# Altium schematic symbol library UCLA-DRS4.SCHLIB: 141 symbols (part 1 of 2)
Pins are listed as number, name and electrical type; pins without a type are passive.

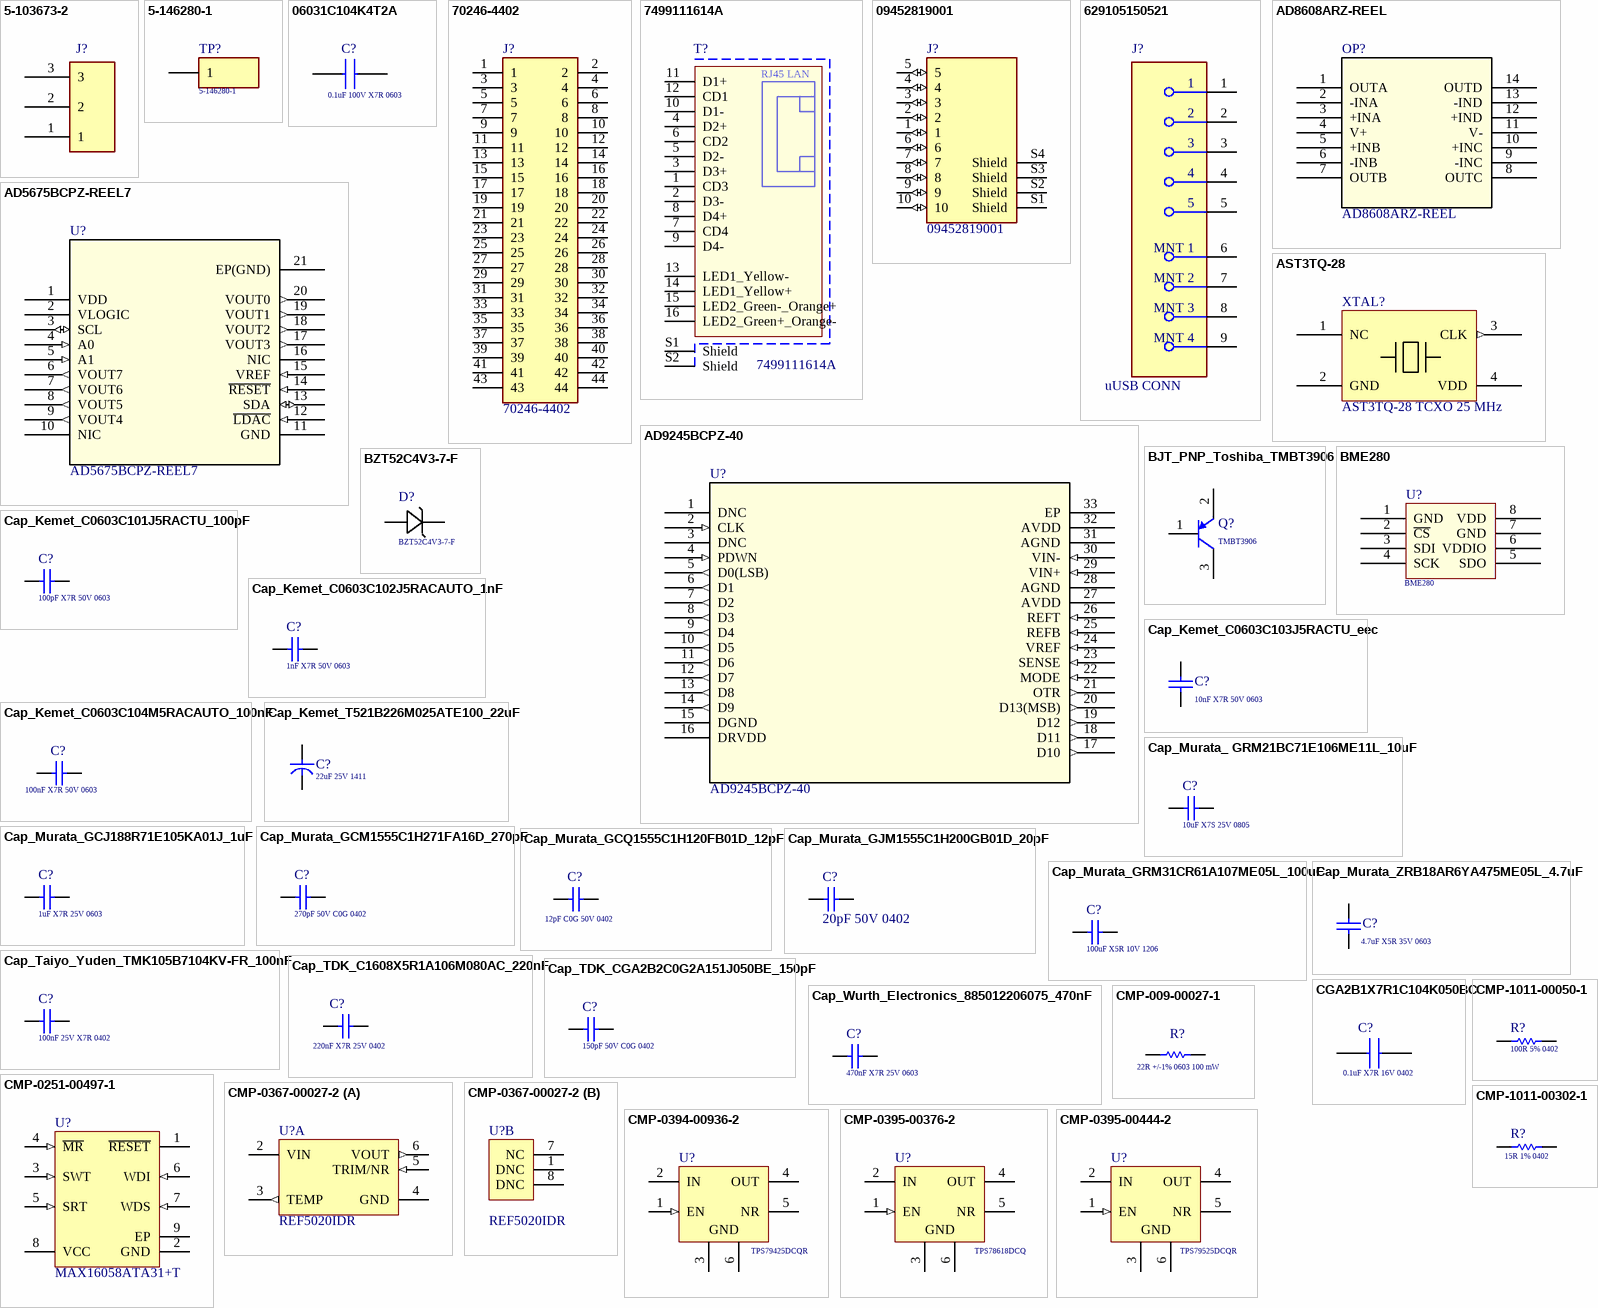
[diagram p0: symbols 5-103673-2 to CMP-1011-00302-1]

## 5-103673-2
designator J?  (value not drawn)
Headers & Wire Housings LATCHING HDR SHRD 3P W/ HOLD-DN 15AU CONT; Series: 5-147278-2; Supplier 1: Newark; Supplier Part Number 1: 78X5595
footprint 5-103673-2_TYC
pins: 1, 2, 3

## 5-146280-1
designator TP?
Connector; Manufacturer_Name: TE Connectivity; Datasheet Link: https://www.te.com/commerce/DocumentDelivery/DDEController?Action=showdoc&DocId=Customer+Drawing%7F146280%7FH2%7Fpdf%7FEnglish%7FENG_CD_146280_H2.pdf%7F5-146280-1; Height: 8.21mm; Manufacturer_Part_Number: 5-146280-1; Mouser Part Number: 571-51462801; Mouser Price/Stock: https://www.mouser.co.uk/ProductDetail/TE-Connectivity/5-146280-1/?qs=bwpFY26eRVcArW7BMMLddw%3D%3D; Arrow Part Number: 5-146280-1; Arrow Price/Stock: https://www.arrow.com/en/products/5-146280-1/te-connectivity
footprint HDRV1W67P0X254_1X1_213X234X821P
pins: 1

## 06031C104K4T2A
designator C?  Capacitance: 0.1uF 100V X7R 0603  (hidden comment: 06031C104K4T2A)
Multilayer Ceramic Capacitors MLCC - SMD/SMT 100V 0.1uF X7R 0603 10% Flex AEC-Q200; Manufacturer_Name: Kyocera AVX; Datasheet Link: https://componentsearchengine.com/Datasheets/1/06031A100FAT2A.pdf; Height: 0.9mm; Manufacturer_Part_Number: 06031C104K4T2A; Supplier 1: Newark; Supplier Part Number 1: 83AH8477
footprint CAPC1608X90N
pins: 1, 2

## 70246-4402
designator J?
Connector; Manufacturer_Name: Molex; Datasheet Link: https://www.mouser.com/datasheet/2/276/3/0702464402_PCB_HEADERS-2847292.pdf; Height: 9.47mm; Manufacturer_Part_Number: 70246-4402; Mouser Part Number: 538-70246-4402; Mouser Price/Stock: https://www.mouser.co.uk/ProductDetail/Molex/70246-4402/?qs=fJMuCzod2IK9%2F8AWteCV5A%3D%3D; Supplier 1: Mouser; Supplier Part Number 1: 538-70246-4402
footprint SHDR44W64P254_2X22_6350X889X947P
pins: 1, 2, 3, 4, 5, 6, 7, 8, 9, 10, 11, 12, 13, 14, 15, 16, 17, 18, 19, 20, 21, 22, 23, 24, 25, 26, 27, 28, 29, 30, 31, 32, 33, 34, 35, 36, 37, 38, 39, 40, 41, 42, 43, 44

## 7499111614A
designator T?
1 Port RJ45 Through Hole 10/100/1000 Base-T, AutoMDIX; Part Number: 7499111221A; Tab Position: Up; Port Number: 1x1; PoE: non-PoE; LED (Left-Right): green-green; USB: No; ComponentLink1Description: Manufacturer; ComponentLink1URL: http://www.we-online.de; ComponentLink2Description: Datasheet; ComponentLink2URL: http://katalog.we-online.de/pbs/datasheet/7499111221A.pdf; Published Date: Dec. 2017; Publisher: Wurth Elektronik; Data Rate: 10/100/1000 Base-T; Operating Temperature: 0 to +70 degC; Mounting Technology: THT; Supplier 1: Newark; Supplier Part Number 1: 99AH1363
footprint 7499111614A (LAN Transformer, body 33.02x16.87mm)
pins: 1 CD3, 2 D3-, 3 D3+, 4 D2+, 5 D2-, 6 CD2, 7 CD4, 8 D4+, 9 D4-, 10 D1-, 11 D1+, 12 CD1, 13 LED1_Yellow-, 14 LED1_Yellow+, 15 LED2_Green-_Orange+, 16 LED2_Green+_Orange-, S1 Shield, S2 Shield
text: RJ45 LAN

## 09452819001
designator J?
Connector; Manufacturer_Name: HARTING; Datasheet Link: https://b2b.harting.com/files/download/PRD/PDF_TS/09452819001_100805966DRW000C.pdf?siteName=Ebusiness+Site&autoLogoutEnabled=true&autoLogoutTime=1800&showPrivacyEmailAgreement=false&contextURL=https%3A%2F%2Fb2b.harting.com%2Febusiness%2Fen_us; Manufacturer_Part_Number: 09452819001; Mouser Part Number: 617-09452819001; Mouser Price/Stock: https://www.mouser.co.uk/ProductDetail/HARTING/09452819001?qs=T3oQrply3y%2Fl7UBgasft0g%3D%3D; Arrow Part Number: 09452819001; Arrow Price/Stock: https://www.arrow.com/en/products/09452819001/harting
footprint 09452812561
pins: 1 (io), 2 (io), 3 (io), 4 (io), 5 (io), 6 (io), 7 (io), 8 (io), 9 (io), 10 (io), S1 Shield, S2 Shield, S3 Shield, S4 Shield

## 629105150521
designator J?, comment uUSB CONN
USB Connectors WR-COM USB Micro SMT Type B Horiztl; Manufacturer 1: Wurth; Manufacturer Part Number 1: 629105150521
footprint Wurth_Electronics_629105150521_MFG
pins: 1, 2, 3, 4, 5, 6 MNT 1, 7 MNT 2, 8 MNT 3, 9 MNT 4

## AD5675BCPZ-REEL7
designator U?, comment Series: AD5675BCPZ-REEL7  (hidden comment: AD5675)
Digital to Analog Converters - DAC 16-bit octal I2C nanoDAC; Vendor: Analog Devices Inc; Built_By: Analog Devices Inc.; Manufacturer_Part_Number: AD5675BCPZ-REEL7; RefDes: RefDes; Type: DEV; Value: Value; Supplier Part Number 1: 584-AD5675BCPZ-REEL7; Supplier 1: Mouser
footprint CP_20_8
pins: 1 VDD (power), 2 VLOGIC (power), 3 SCL (io), 4 A0 (in), 5 A1 (in), 6 VOUT7 (out), 7 VOUT6 (out), 8 VOUT5 (out), 9 VOUT4 (out), 10 NIC, 11 GND, 12 ~{LDAC} (in), 13 SDA (io), 14 ~{RESET} (in), 15 VREF (in), 16 NIC, 17 VOUT3 (out), 18 VOUT2 (out), 19 VOUT1 (out), 20 VOUT0 (out), 21 EP(GND)

## AD8608ARZ-REEL
designator OP?
IC OPAMP GP 4 CIRCUIT 14SOIC; Built_By: EMA_UL_Team; Vendor: Analog Devices Inc; SourceLibrary: Analog_2012-01-01_6; Manufacturer_Part_Number: AD8608ARZ-REEL; Copyright: Copyright (C) 2018 Accelerated Designs. All rights reserved; RefDes: RefDes; Type: DEV
footprint R_14_ADI-M
pins: 1 OUTA, 2 -INA, 3 +INA, 4 V+ (power), 5 +INB, 6 -INB, 7 OUTB, 8 OUTC, 9 -INC, 10 +INC, 11 V- (power), 12 +IND, 13 -IND, 14 OUTD

## AD9245BCPZ-40
designator U?, comment Series: AD9245BCPZ-40  (hidden comment: AD9245)
Analog to Digital Converters - ADC 14-Bit 40 MSPS 3V; Vendor: Analog Devices Inc; Built_By: EMA_UL_Team; C: Copyright (C) 2015 Accelerated Designs. All rights reserved; RefDes: RefDes; Type: DEV; Supplier 1: Mouser; Supplier Part Number 1: 584-AD9245BCPZ-40; Part: AD9245BCPZ-40
footprint CP_32_2
pins: 1 DNC, 2 CLK (in), 3 DNC, 4 PDWN (in), 5 D0(LSB) (out), 6 D1 (out), 7 D2 (out), 8 D3 (out), 9 D4 (out), 10 D5 (out), 11 D6 (out), 12 D7 (out), 13 D8 (out), 14 D9 (out), 15 DGND, 16 DRVDD (power), 17 D10 (out), 18 D11 (out), 19 D12 (out), 20 D13(MSB) (out), 21 OTR (out), 22 MODE (in), 23 SENSE (in), 24 VREF (in), 25 REFB (in), 26 REFT (in), 27 AVDD (power), 28 AGND, 29 VIN+ (in), 30 VIN- (in), 31 AGND, 32 AVDD (power), 33 EP

## AST3TQ-28
designator XTAL?, comment AST3TQ-28 TCXO 25 MHz
TCXO Oscillators 25MHz 3.3Volt LVCMOS 0.280 ppm -40C 85C; Manufacturer 1: Abracon LLC; Manufacturer Part Number 1: AST3TQ-T-25.000MHZ-28; Supplier 1: Digikey; Supplier Part Number 1: 535-12700-ND
footprint XTAL_ASDM1-25.000MHZ-LC-T
pins: 1 NC, 2 GND, 3 CLK (out), 4 VDD (power)

## BJT_PNP_Toshiba_TMBT3906
designator Q?  Series: TMBT3906  (hidden comment: BJT_PNP_Toshiba_TMBT3906)
Bipolar Transistors - BJT Transistor for Low Freq. Amplification; Manufacturer Part Number 1: TMBT3906,LM; Supplier Part Number 1: 757-TMBT3906LM; Supplier 1: Mouser; Manufacturer: Toshiba
footprint BJT_PNP_Toshiba_TMBT3906
pins: 1 B, 2 E, 3 C

## BME280
designator U?
Board Mount Humidity Sensors; Supplier 1: Mouser; Supplier Part Number 1: 262-BME280
footprint BME280
pins: 1 GND, 2 ~{CS}, 3 SDI, 4 SCK, 5 SDO, 6 VDDIO, 7 GND, 8 VDD

## BZT52C4V3-7-F
designator D?
Zener Diodes 500mW 4.3V Zener AEC-Q101 Qualified; Vendor: Diodes Inc; Built_By: EMA_UL_Team; Type: DEV; C: Copyright (C) 2015 Accelerated Designs. All rights reserved; Manufacturer_Part_Number: BZT52C4V3-7-F; RefDes: RefDes; Supplier 1: Mouser; Supplier Part Number 1: 621-BZT52C4V3-F; Series: BZT52C4V3-7-F
footprint SOD123
pins: 1, 2

## Cap_Kemet_C0603C101J5RACTU_100pF
designator C?  Capacitance: 100pF X7R 50V 0603  (hidden comment: Cap_Kemet_C0603C101J5RACTU_100pF)
CAP CER 100pF 50V X7R 0603; Supplier 1: Mouser; Supplier Part Number 1: 80-C0603C101J5R
footprint Cap_Kemet_C0603C101J5RACTU_100pF
pins: 1, 2

## Cap_Kemet_C0603C102J5RACAUTO_1nF
designator C?  Capacitance: 1nF X7R 50V 0603  (hidden comment: Cap_Kemet_C0603C102J5RACAUTO_1nF)
CAP CER 1nF 50V X7R 0603; Supplier 1: Mouser; Supplier Part Number 1: 80-C0603C102J5RAUTO
footprint Cap_Kemet_C0603C102J5RACAUTO_1nF
pins: 1, 2

## Cap_Kemet_C0603C103J5RACTU_eec
designator C?  Capacitance: 10nF X7R 50V 0603  (hidden comment: Cap_Kemet_C0603C103J5RACTU_eec)
CAP CER 10nF 50V X7R 0603; Manufacturer: Kemet; Mfg Package Ident: C0603; Part Number: C0603C103J5RACTU; helpURL: https://upverter.com/upn/revision/8a8d0c297e33ac74/; ComponentLink2Description: Datasheet; Temperature: -55°C to +125°C; Package: C0603; Supplier 2: Mouser; Price: 0.0184203126773; Supplier 1: Digi-Key; ComponentLink1URL: https://upverter.com/upn/revision/8a8d0c297e33ac74/; Supplier Part Number 2: 80-C0603C103J5R; Supplier Part Number 1: 399-1092-1-ND; Value: 10nF; ComponentLink1Description: Upverter; ComponentLink2URL: https://content.kemet.com/datasheets/KEM_C1002_X7R_SMD.pdf; RoHS: TRUE; Mouser Part Number: 80-C0603C103J5R; Temperature Range High: +125°C; Digikey Description: CAP CER 10000PF 50V X7R 0603; Digikey Part Number: 399-1092-1-ND; Lead Free: yes; Temperature Range Low: -55°C; Voltage: 50V
footprint Kemet_C0603_0
pins: 1, 2

## Cap_Kemet_C0603C104M5RACAUTO_100nF
designator C?  Capacitance: 100nF X7R 50V 0603  (hidden comment: Cap_Kemet_C0603C104M5RACAUTO_100nF)
CAP CER 100nF 50V X7R 0603; Supplier 1: Mouser; Supplier Part Number 1: 80-C0603C104M5RAUTO
footprint Cap_Kemet_C0603C104M5RACAUTO_100nF
pins: 1, 2

## Cap_Kemet_T521B226M025ATE100_22uF
designator C?  Capacitance: 22uF 25V 1411  (hidden comment: Cap_Kemet_T521B226M025ATE100_22uF)
Tantalum Capacitors - Polymer SMD 25V 22uF 1311 20% ESR=100mOhms; Supplier 1: Mouser; Supplier Part Number 1: 80-T521B226M25ATE100
footprint Cap_Kemet_T521B226M025ATE100_22uF
pins: 1, 2

## Cap_Murata_ GRM21BC71E106ME11L_10uF
designator C?  Capacitance: 10uF X7S 25V 0805  (hidden comment: Cap_Murata_ GRM21BC71E106ME11L_10uF)
CAP CER 10uF 25V X7R 0805; Supplier 1: Mouser; Supplier Part Number 1: 81-GRM21BC71E106ME1L
footprint Cap_Murata_ GRM21BC71E106ME11L_10uF
pins: 1, 2

## Cap_Murata_GCJ188R71E105KA01J_1uF
designator C?  Capacitance: 1uF X7R 25V 0603  (hidden comment: Cap_Murata_GCJ188R71E105KA01J_1uF)
CAP CER 1uF 25V X7R 0603; Supplier 1: Mouser; Supplier Part Number 1: 81-GCJ188R71E105KA1J
footprint Cap_Murata_GCJ188R71E105KA01J_1uF
pins: 1, 2

## Cap_Murata_GCM1555C1H271FA16D_270pF
designator C?  Capacitance: 270pF 50V C0G 0402  (hidden comment: Cap_Murata_GCM1555C1H271FA16D_270pF)
CAP 270pF 50V C0G ±1% 0402; Supplier 1: Mouser; Supplier Part Number 1: 81-GCM1555C1H271FA6D
footprint Cap_Murata_GCM1555C1H271FA16D_270pF
pins: 1, 2

## Cap_Murata_GCQ1555C1H120FB01D_12pF
designator C?  Capacitance: 12pF C0G 50V 0402  (hidden comment: Cap_Murata_GCQ1555C1H120FB01D_12pF)
MLCC - SMD/SMT 0402 50VDC 12pF 1% AEC-Q200; Manufacturer 1: Murata; Supplier 1: Mouser; Supplier Part Number 1: 81-GCQ1555C1H120FB1D; Manufacturer Part Number 1: GCQ1555C1H120FB01D
footprint Cap_Murata_GCQ1555C1H120FB01D_12pF
pins: 1, 2

## Cap_Murata_GJM1555C1H200GB01D_20pF
designator C?  Capacitance: 20pF 50V 0402  (hidden comment: Cap_Murata_GJM1555C1H200GB01D_20pF)
Multilayer Ceramic Capacitors MLCC - SMD/SMT 0402 20pF 50Volts C0G 2%; Supplier 1: Mouser; Supplier Part Number 1: 81-GJM1555C1H200GB01
footprint Cap_Murata_GJM1555C1H200GB01D_20pF
pins: 1, 2

## Cap_Murata_GRM31CR61A107ME05L_100uF
designator C?  Capacitance: 100uF X5R 10V 1206  (hidden comment: Cap_Murata_GRM31CR61A107ME05L_100uF)
CAP CER 100uF 25V X5R 1206; Supplier Part Number 1: 81-GRM31CR61A107ME5L; Supplier 1: Mouser
footprint Cap_Murata_GRM31CR61A107ME05L_100uF
pins: 1, 2

## Cap_Murata_ZRB18AR6YA475ME05L_4.7uF
designator C?  Capacitance: 4.7uF X5R 35V 0603  (hidden comment: Cap_Murata_ZRB18AR6YA475ME05L_4.7uF)
CAP CER 4.7uF 35V X5R 0603; Supplier 1: Mouser; Supplier Part Number 1: 81-ZRB18AR6YA475ME5L
footprint Cap_Murata_ZRB18AR6YA475ME05L_4.7uF
pins: 1, 2

## Cap_Taiyo_Yuden_TMK105B7104KV-FR_100nF
designator C?  Capacitance: 100nF 25V X7R 0402  (hidden comment: Cap_Taiyo_Yuden_TMK105B7104KV-FR_100nF)
CAP CER 100nF 25V X7R 0402; Supplier 1: Mouser; Supplier Part Number 1: 963-TMK105B7104KV-FR
footprint Cap_Taiyo_Yuden_TMK105B7104KV-FR_100nF
pins: 1, 2

## Cap_TDK_C1608X5R1A106M080AC_220nF
designator C?  Capacitance: 220nF X7R 25V 0402  (hidden comment: Cap_TDK_C1608X5R1A106M080AC_220nF)
CAP CER 220nF 50V X7R 0402; Supplier 1: Mouser; Supplier Part Number 1: 810-C1005X7R1E224KBE
footprint Cap_TDK_C1608X5R1A106M080AC_220nF
pins: 1, 2

## Cap_TDK_CGA2B2C0G2A151J050BE_150pF
designator C?  Capacitance: 150pF 50V C0G 0402  (hidden comment: Cap_TDK_CGA2B2C0G2A151J050BE_150pF)
CAP 150pF 50V C0G ±1% 0402 (1000 Metric) Thickness 1mm SMD; Supplier 1: Mouser; Supplier Part Number 1: 810-CGA2B2C0G2A151J0
footprint Cap_TDK_CGA2B2C0G2A151J050BE_150pF
pins: 1, 2

## Cap_Wurth_Electronics_885012206075_470nF
designator C?  Capacitance: 470nF X7R 25V 0603  (hidden comment: Cap_Wurth_Electronics_885012206075_470nF)
CAP CER 470nF 25V X7R 0603; Supplier 1: Mouser; Supplier Part Number 1: 710-885012206075
footprint Cap_Wurth_Electronics_885012206075_470nF
pins: 1, 2

## CGA2B1X7R1C104K050BC
designator C?  Parameter: 0.1uF X7R 16V 0402  (hidden comment: CGA2B1X7R1C104K050BC)
Capacitor; Manufacturer_Name: TDK; Datasheet Link: https://product.tdk.com/system/files/dam/doc/product/capacitor/ceramic/mlcc/catalog/mlcc_automotive_general_en.pdf; Height: 0.55mm; Manufacturer_Part_Number: CGA2B1X7R1C104K050BC; Mouser Part Number: 810-CGA2B1X7R1C104K; Mouser Price/Stock: https://www.mouser.co.uk/ProductDetail/TDK/CGA2B1X7R1C104K050BC?qs=NRhsANhppD8tgIeNjgC%2Fqg%3D%3D; Arrow Part Number: CGA2B1X7R1C104K050BC; Arrow Price/Stock: https://www.arrow.com/en/products/cga2b1x7r1c104k050bc/tdk?region=nac
footprint CAPC1005X55N
pins: 1, 2

## CMP-009-00027-1
designator R?, comment Parameter: 22R +/-1% 0603 100 mW  (hidden comment: CRCW060322R0FKEA)
Chip Resistor, 22 Ohm, +/- 1%, 100 mW, -55 to 155 degC, 0603 (1608 Metric); Resistance: 22; Power: 100mW; Voltage Rating: 75V; Min Operating Temperature: -55°C; RoHS Compliant: True; Max Operating Temperature: 155°C; Tolerance: 1%; Case/Package: 0603; Mounting Technology: SM; Supplier 1: Newark; Supplier Part Number 1: 24W2788
footprint RES_CRCW_0603
pins: 1, 2

## CMP-0251-00497-1
designator U?, comment MAX16058ATA31+T
125nA Supervisory Circuit with Capacitor-Adjustable Reset and Watchdog Timeouts, open-drain reset, Watch-dog timer, 8-Pin TDFN, -40°C to +125°C, Pb-Free, Tape and Reel; Manufacturer: Maxim; ComponentLink2Description: Datasheet; ComponentLink2URL: http://datasheets.maxim-ic.com/en/ds/MAX16056-MAX16059.pdf; PackageDescription: 8-Pin Plastic Very Very Thin Dual Flatpack No Leads, Exposed Pad, 3 x 3 x 0.8 mm Body, TDFN-EP, Pb-Free; DatasheetVersion: Rev 1, Jun-2010; ComponentLink3URL: http://pdfserv.maxim-ic.com/package_dwgs/21-0137.PDF; PackageVersion: revJ, 2009; PackageReference: T833+2; ComponentLink1URL: http://www.maxim-ic.com; ComponentLink1Description: Manufacturer URL; ComponentLink3Description: Package Specification; Code_JEDEC: MO-229-WEEC; Manufacturer Part Number: MAX16058ATA31+T
footprint T833+2 (SON, 8-Leads, Body 3x3 mm, Pitch 0.65mm, Thermal Pad 2.35x1.58mm, Maxim Recommended)
pins: 1 ~{RESET} (oc), 2 GND (power), 3 SWT (in), 4 ~{MR} (in), 5 SRT (in), 6 WDI (in), 7 WDS (in), 8 VCC (power), 9 EP (power)

## CMP-0367-00027-2
designator U?, comment REF5020IDR
Low Noise, Very Low Drift, Precision Voltage Reference, -40 to 125 degC, 8-pin SOIC (D), Green (RoHS & no Sb/Br); Manufacturer: Texas Instruments; Iq(Max)(uA): 1000; VI(Min)(V): 2.7; Temp Coeff(Max)(ppm/ degree C): 3; VI(Max)(V): 18; Rating: Catalog; Initial Accuracy @ 25/deg C(%): 0.05; VO(V): 2.048; Iout/Iz(Max)(mA): 10; SubFamily: Series Voltage Reference; DatasheetVersion: SBOS410E; ComponentLink3URL: http://www.ti.com/litv/pdf/msoi002j; ComponentLink1URL: http://www.ti.com/; PackageDescription: 8-Pin Plastic Small Outline, Body 4.9 x 3.9 mm, Pitch 1.27 mm; ComponentLink2URL: http://www.ti.com/general/docs/lit/getliterature.tsp?genericPartNumber=REF5020&fileType=pdf; ComponentLink3Description: Package Specification; PackageReference: D0008A; Mounting Technology: Surface Mount; ComponentLink2Description: Datasheet; PartNumber: REF5020IDR; Code_JEDEC: MS-012; Eco-Plan: Green (RoHS & no Sb/Br); ComponentLink1Description: Manufacturer URL; PackageVersion: 4040047-3/M; Manufacturer Part Number: REF5020IDR
footprint D0008A_N (SOIC, 8-Leads, Body 5x4mm, Pitch 1.27mm, IPC Medium Density)
footprint D0008A_L (SOIC, 8-Leads, Body 5x4mm, Pitch 1.27mm, IPC High Density)
footprint D0008A_M (SOIC, 8-Leads, Body 5x4mm, Pitch 1.27mm, IPC Low Density)
part A pins: 2 VIN (power), 3 TEMP (out), 4 GND (power), 5 TRIM/NR (in), 6 VOUT (out)
part B pins: 1 DNC, 7 NC, 8 DNC

## CMP-0394-00936-2
designator U?, comment TPS79425DCQR
Single Output High PSRR LDO, 250 mA, Fixed 2.5 V Output, 2.7 to 5.5 V Input, 6-pin SOT-223 (DCQ), -40 to 85 degC, Green (RoHS & no Sb/Br); Manufacturer: Texas Instruments; SubFamily: Single Channel LDO; Iout(Max)(A): 0.25; Vin(Max)(V): 5.5; Vin(Min)(V): 2.7; Fixed Output Options(V): 2.5; Vdo(Typ)(mV): 155; Iq(Typ)(mA): 0.26; Accuracy(%): 3; ComponentLink3Description: Package Specification; Mounting Technology: Surface Mount; ComponentLink1URL: http://www.ti.com/; PackageVersion: 4202109/D; ComponentLink2URL: http://www.ti.com/general/docs/lit/getliterature.tsp?genericPartNumber=TPS79425&fileType=pdf; DatasheetVersion: SLVS349E; Eco-Plan: Green (RoHS & no Sb/Br); PackageReference: DCQ0006A; PackageDescription: 6-Pin Plastic Small Outline, Body 3.5 x 6.5 mm, Pitch 1.27 mm; Vout Adj(Min)(V): 2.5; ComponentLink1Description: Manufacturer URL; Vout Adj(Max)(V): 2.5; ComponentLink3URL: http://www.ti.com/litv/pdf/mpds098c; ComponentLink2Description: Datasheet; PartNumber: TPS79425DCQR; Manufacturer Part Number: TPS79425DCQR
footprint DCQ0006A_L (SOT223, 6-Leads, Body 6.55x3.55mm, Pitch 1.27mm, IPC High Density)
footprint DCQ0006A_M (SOT223, 6-Leads, Body 6.55x3.55mm, Pitch 1.27mm, IPC Low Density)
footprint DCQ0006A_N (SOT223, 6-Leads, Body 6.55x3.55mm, Pitch 1.27mm, IPC Medium Density)
pins: 1 EN (in) "The EN terminal is an input that enables or shuts down the device. When EN is a logic high, the device is enabled. When the device is a logic low, the device is in shutdown mode.", 2 IN (power) "Unregulated input to the device.", 3 GND (power) "Regulator ground", 4 OUT (power) "Regulator output", 5 NR "Connecting an external capacitor to this pin bypasses noise generated by the internal bandgap, which improves power-supply rejection and reduces output noise.", 6 GND (power) "Regulator ground"

## CMP-0395-00376-2
designator U?, comment TPS78618DCQ
Single Output High PSRR LDO, 1.5 A, Fixed 1.8 V Output, 2.7 to 5.5 V Input, 6-pin SOT-223 (DCQ), -40 to 125 degC, Green (RoHS & no Sb/Br); Manufacturer: Texas Instruments; Accuracy(%): 3; Fixed Output Options(V): 1.8; Vin(Min)(V): 2.7; SubFamily: Single Channel LDO; Vdo(Typ)(mV): 390; Vin(Max)(V): 5.5; Iout(Max)(A): 1.5; Iq(Typ)(mA): 0.2; Vout Adj(Min)(V): 1.8; ComponentLink3Description: Package Specification; PackageReference: DCQ0006A; ComponentLink3URL: http://www.ti.com/litv/pdf/mpds098c; ComponentLink1Description: Manufacturer URL; DatasheetVersion: SLVS389L; PackageDescription: 6-Pin Plastic Small Outline, Body 3.5 x 6.5 mm, Pitch 1.27 mm; Vout Adj(Max)(V): 1.8; ComponentLink1URL: http://www.ti.com/; Eco-Plan: Green (RoHS & no Sb/Br); Mounting Technology: Surface Mount; PartNumber: TPS78618DCQ; PackageVersion: 4202109/D; ComponentLink2URL: http://www.ti.com/general/docs/lit/getliterature.tsp?genericPartNumber=TPS78618&fileType=pdf; ComponentLink2Description: Datasheet; Manufacturer Part Number: TPS78618DCQ
footprint DCQ0006A_L (SOT223, 6-Leads, Body 6.55x3.55mm, Pitch 1.27mm, IPC High Density)
footprint DCQ0006A_M (SOT223, 6-Leads, Body 6.55x3.55mm, Pitch 1.27mm, IPC Low Density)
footprint DCQ0006A_N (SOT223, 6-Leads, Body 6.55x3.55mm, Pitch 1.27mm, IPC Medium Density)
pins: 1 EN (in) "The EN terminal is an input that enables or shuts down the device. When EN is a logic high, the device is enabled. When the device is a logic low, the device is in shutdown mode.", 2 IN (power) "Unregulated input to the device.", 3 GND (power) "Regulator ground", 4 OUT (power) "Regulator output", 5 NR "Connecting an external capacitor to this pin bypasses noise generated by the internal bandgap, which improves power-supply rejection and reduces output noise.", 6 GND (power) "Regulator ground"

## CMP-0395-00444-2
designator U?, comment TPS79525DCQR
Single Output High PSRR LDO, 500 mA, Fixed 2.5 V Output, 2.7 to 5.5 V Input, 6-pin SOT-223 (DCQ), -40 to 125 degC, Green (RoHS & no Sb/Br); Manufacturer: Texas Instruments; Iout(Max)(A): 0.5; Vout Adj(Min)(V): 2.5; Vin(Max)(V): 5.5; SubFamily: Single Channel LDO; Vdo(Typ)(mV): 110; Rating: Catalog; Accuracy(%): 2; Iq(Typ)(mA): 0.26; Vin(Min)(V): 2.7; ComponentLink3URL: http://www.ti.com/litv/pdf/mpds098c; ComponentLink1URL: http://www.ti.com/; Eco-Plan: Green (RoHS & no Sb/Br); PackageDescription: 6-Pin Plastic Small Outline, Body 3.5 x 6.5 mm, Pitch 1.27 mm; PartNumber: TPS79525DCQR; Fixed Output Options(V): 2.5; ComponentLink1Description: Manufacturer URL; PackageReference: DCQ0006A; ComponentLink2Description: Datasheet; Vout Adj(Max)(V): 2.5; ComponentLink3Description: Package Specification; ComponentLink2URL: http://www.ti.com/general/docs/lit/getliterature.tsp?genericPartNumber=TPS79525&fileType=pdf; Mounting Technology: Surface Mount; DatasheetVersion: SLVS350H; PackageVersion: 4202109/D; Supplier 1: Mouser; Supplier Part Number 1: 595-TPS79525DCQR
footprint DCQ0006A_L (SOT223, 6-Leads, Body 6.55x3.55mm, Pitch 1.27mm, IPC High Density)
footprint DCQ0006A_N (SOT223, 6-Leads, Body 6.55x3.55mm, Pitch 1.27mm, IPC Medium Density)
footprint DCQ0006A_M (SOT223, 6-Leads, Body 6.55x3.55mm, Pitch 1.27mm, IPC Low Density)
pins: 1 EN (in) "The EN terminal is an input that enables or shuts down the device. When EN is a logic high, the device is enabled. When the device is a logic low, the device is in shutdown mode.", 2 IN (power) "Unregulated input to the device.", 3 GND (power) "Regulator ground", 4 OUT (power) "Regulator output", 5 NR "Connecting an external capacitor to this pin bypasses noise generated by the internal bandgap, which improves power-supply rejection and reduces output noise.", 6 GND (power) "Regulator ground"

## CMP-1011-00050-1
designator R?, comment 100R 5% 0402
100R 0.063W 5% 0402 (1005 Metric)  SMD; Manufacturer: Vishay Dale; Manufacturer Part Number: CRCW0402100RJNTE; Manufacturer: Multicomp; Manufacturer Part Number: MCMR04X101JTL; Manufacturer: Panasonic; Manufacturer Part Number: ERJ-2GEJ101X; Manufacturer: Bourns; Manufacturer Part Number: CR0402-JW-101GLF; Manufacturer Part Number: CRCW0402100RJNTD; Manufacturer Part Number: CRCW0402100RJNED; Manufacturer Part Number: CRCW0402100RJNEE; Manufacturer: Yageo; Manufacturer Part Number: RC0402JR-07100RL; Case-EIA: 0402; Value: 100.00 Ohm; Case-Metric: 1005; Tolerance: 5 %; Technology: SMT; Power: 0.063 W
footprint RESC0402(1005)_L (Chip Resistor, Body 1.0x0.5mm, IPC High Density)
footprint RESC0402(1005)_N (Chip Resistor, Body 1.0x0.5mm, IPC Medium Density)
footprint RESC0402(1005)_M (Chip Resistor, Body 1.0x0.5mm, IPC Low Density)
pins: 1, 2
1 alternate drawing of the same symbol

## CMP-1011-00302-1
designator R?, comment 15R 1% 0402
15R 0.063W 1% 0402 (1005 Metric)  SMD; Manufacturer: Panasonic; Manufacturer Part Number: ERJ-2RKF15R0X; Manufacturer: Vishay Dale; Manufacturer Part Number: CRCW040215R0FKTD; Manufacturer: Vishay; Manufacturer Part Number: CRCW040215R0FKED; Manufacturer: Yageo; Manufacturer Part Number: RC0402FR-0715RL; Manufacturer: Bourns; Manufacturer Part Number: CR0402-FX-15R0GLF; Case-Metric: 1005; Case-EIA: 0402; Value: 15.00 Ohm; Tolerance: 1 %; Power: 0.063 W; Technology: SMT
footprint RESC0402(1005)_N (Chip Resistor, Body 1.0x0.5mm, IPC Medium Density)
footprint RESC0402(1005)_M (Chip Resistor, Body 1.0x0.5mm, IPC Low Density)
footprint RESC0402(1005)_L (Chip Resistor, Body 1.0x0.5mm, IPC High Density)
pins: 1, 2
1 alternate drawing of the same symbol

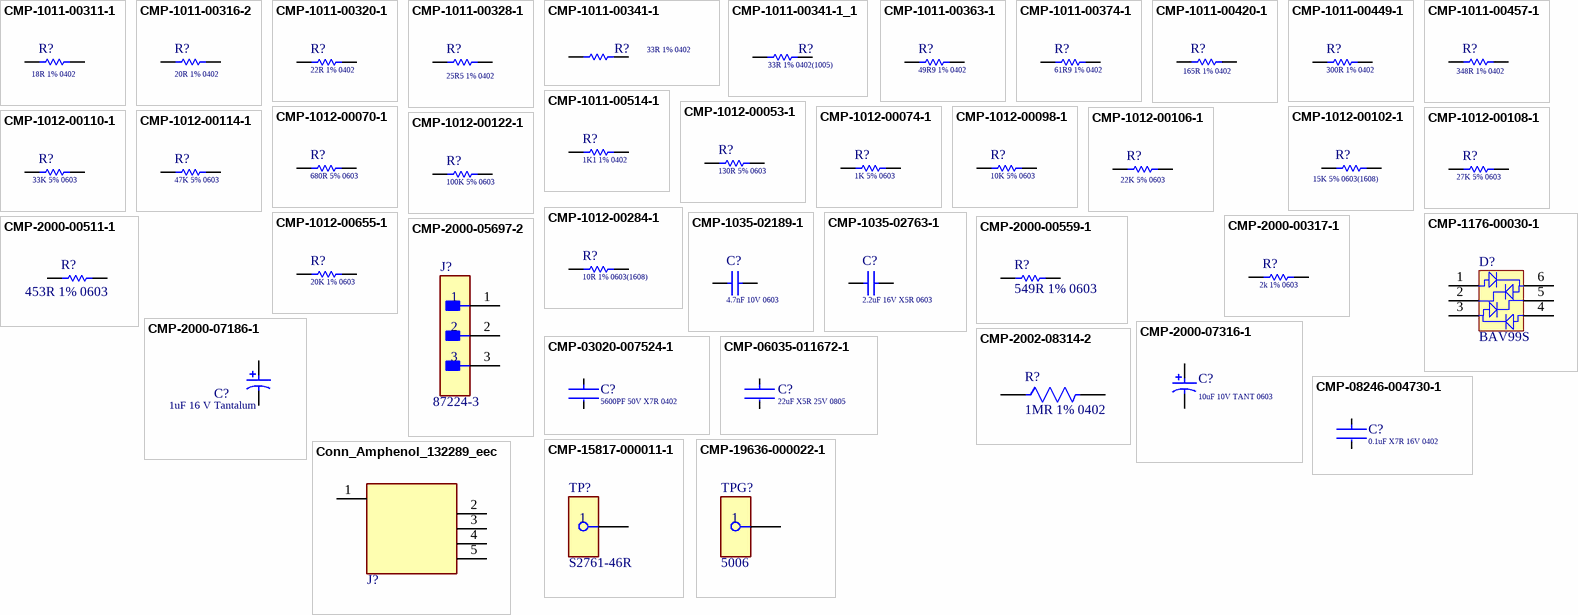
[diagram p1: symbols CMP-1011-00311-1 to Conn_Amphenol_132289_eec]

## CMP-1011-00311-1
designator R?, comment 18R 1% 0402
18R 0.063W 1% 0402 (1005 Metric)  SMD; Manufacturer: Vishay Dale; Manufacturer Part Number: CRCW040218R0FKTD; Manufacturer: Vishay; Manufacturer Part Number: CRCW040218R0FKED; Manufacturer: Panasonic; Manufacturer Part Number: ERJ-2RKF18R0X; Manufacturer: Bourns; Manufacturer Part Number: CR0402-FX-18R0GLF; Manufacturer: Yageo; Manufacturer Part Number: RC0402FR-0718RL; Case-EIA: 0402; Value: 18.00 Ohm; Case-Metric: 1005; Tolerance: 1 %; Power: 0.063 W; Technology: SMT
footprint RESC0402(1005)_N (Chip Resistor, Body 1.0x0.5mm, IPC Medium Density)
footprint RESC0402(1005)_L (Chip Resistor, Body 1.0x0.5mm, IPC High Density)
footprint RESC0402(1005)_M (Chip Resistor, Body 1.0x0.5mm, IPC Low Density)
pins: 1, 2
1 alternate drawing of the same symbol

## CMP-1011-00316-2
designator R?, comment Parameter: 20R 1% 0402  (hidden comment: CR0402-FX-20R0GLF)
Manufacturer: Bourns; Manufacturer: Vishay; Manufacturer Part Number: CRCW040220R0FKED; Manufacturer: Vishay Dale; Manufacturer Part Number: CRCW040220R0FKTD; Manufacturer: Panasonic; Manufacturer Part Number: ERJ-2RKF20R0X; Manufacturer: Yageo; Manufacturer Part Number: RC0402FR-0720RL; Part Number: CR0402-FX-20R0GLF; Manufacturer Part Number: CR0402-FX-20R0GLF
footprint RESC1005X40X25NL10T10 (Chip Resistor, 2-Leads, Body 1.00x0.50mm, IPC Medium Density)
footprint RESC1005X40X25ML10T10 (Chip Resistor, 2-Leads, Body 1.00x0.50mm, IPC Low Density)
footprint RESC1005X40X25LL10T10 (Chip Resistor, 2-Leads, Body 1.00x0.50mm, IPC High Density)
pins: 1, 2
1 alternate drawing of the same symbol

## CMP-1011-00320-1
designator R?, comment 22R 1% 0402
22R 0.063W 1% 0402 (1005 Metric)  SMD; Manufacturer: Vishay Dale; Manufacturer Part Number: CRCW040222R0FKTD; Manufacturer: Bourns; Manufacturer Part Number: CR0402-FX-22R0GLF; Manufacturer: Yageo; Manufacturer Part Number: RC0402FR-0722RL; Manufacturer: Panasonic; Manufacturer Part Number: ERJ-2RKF22R0X; Manufacturer: Vishay; Manufacturer Part Number: CRCW040222R0FKED; Case-EIA: 0402; Case-Metric: 1005; Value: 22.00 Ohm; Tolerance: 1 %; Technology: SMT; Power: 0.063 W
footprint RESC0402(1005)_N (Chip Resistor, Body 1.0x0.5mm, IPC Medium Density)
footprint RESC0402(1005)_M (Chip Resistor, Body 1.0x0.5mm, IPC Low Density)
footprint RESC0402(1005)_L (Chip Resistor, Body 1.0x0.5mm, IPC High Density)
pins: 1, 2
1 alternate drawing of the same symbol

## CMP-1011-00328-1
designator R?, comment 25R5 1% 0402
25R5 0.063W 1% 0402 (1005 Metric)  SMD; Manufacturer: Bourns; Manufacturer Part Number: CR0402-FX-25R5GLF; Manufacturer: Vishay Dale; Manufacturer Part Number: CRCW040225R5FKTD; Manufacturer: Panasonic; Manufacturer Part Number: ERJ-2RKF25R5X; Manufacturer: Yageo; Manufacturer Part Number: RC0402FR-0725R5L; Manufacturer: Vishay; Manufacturer Part Number: CRCW040225R5FKED; Case-EIA: 0402; Case-Metric: 1005; Value: 25.50 Ohm; Tolerance: 1 %; Power: 0.063 W; Technology: SMT
footprint RESC0402(1005)_M (Chip Resistor, Body 1.0x0.5mm, IPC Low Density)
footprint RESC0402(1005)_N (Chip Resistor, Body 1.0x0.5mm, IPC Medium Density)
footprint RESC0402(1005)_L (Chip Resistor, Body 1.0x0.5mm, IPC High Density)
pins: 1, 2
1 alternate drawing of the same symbol

## CMP-1011-00341-1
designator R?, comment Parameter: 33R 1% 0402  (hidden comment: CR0402-FX-33R0GLF)
Case-Metric: 1005; Tolerance: 1 %; Value: 33.00 Ohm; Power: 0.063 W; Case-EIA: 0402; Technology: SMT; Supplier 1: Newark; Supplier Part Number 1: 67AC7617
footprint RESC0402(1005)_N (Chip Resistor, Body 1.0x0.5mm, IPC Medium Density)
footprint RESC0402(1005)_M (Chip Resistor, Body 1.0x0.5mm, IPC Low Density)
footprint BO_CR0402
pins: 1, 2
1 alternate drawing of the same symbol

## CMP-1011-00341-1_1
designator R?, comment 33R 1% 0402(1005)
33R 0.063W 1% 0402 (1005 Metric)  SMD; Manufacturer: Vishay Dale; Manufacturer Part Number: CRCW040233R0FKTD; Manufacturer: Yageo; Manufacturer Part Number: RC0402FR-0733RL; Manufacturer: Panasonic; Manufacturer Part Number: ERJ-2RKF33R0X; Manufacturer: Vishay; Manufacturer Part Number: CRCW040233R0FKED; Manufacturer: Bourns; Manufacturer Part Number: CR0402-FX-33R0GLF; Manufacturer Part Number: CRCW040233R0FKEE; Case-Metric: 1005; Value: 33.00 Ohm; Case-EIA: 0402; Tolerance: 1 %; Power: 0.063 W; Technology: SMT
footprint RESC0402(1005)_L (Chip Resistor, Body 1.0x0.5mm, IPC High Density)
footprint RESC0402(1005)_N (Chip Resistor, Body 1.0x0.5mm, IPC Medium Density)
footprint RESC0402(1005)_M (Chip Resistor, Body 1.0x0.5mm, IPC Low Density)
pins: 1, 2
1 alternate drawing of the same symbol

## CMP-1011-00363-1
designator R?, comment 49R9 1% 0402
49R9 0.063W 1% 0402 (1005 Metric)  SMD; Manufacturer: Vishay; Manufacturer Part Number: CRCW040249R9FKED; Manufacturer: Vishay Dale; Manufacturer Part Number: CRCW040249R9FKEE; Manufacturer: Yageo; Manufacturer Part Number: RC0402FR-0749R9L; Manufacturer: Bourns; Manufacturer Part Number: CR0402-FX-49R9GLF; Manufacturer: Panasonic; Manufacturer Part Number: ERJ2RKF49R9X; Manufacturer Part Number: CRCW040249R9FKTE; Manufacturer Part Number: CRCW040249R9FKTD; Case-EIA: 0402; Case-Metric: 1005; Value: 49.90 Ohm; Power: 0.063 W; Technology: SMT; Tolerance: 1 %
footprint RESC0402(1005)_N (Chip Resistor, Body 1.0x0.5mm, IPC Medium Density)
footprint RESC0402(1005)_L (Chip Resistor, Body 1.0x0.5mm, IPC High Density)
footprint RESC0402(1005)_M (Chip Resistor, Body 1.0x0.5mm, IPC Low Density)
pins: 1, 2
1 alternate drawing of the same symbol

## CMP-1011-00374-1
designator R?, comment 61R9 1% 0402
61R9 0.063W 1% 0402 (1005 Metric)  SMD; Manufacturer: Panasonic; Manufacturer Part Number: ERJ-2RKF61R9X; Manufacturer: Vishay Dale; Manufacturer Part Number: CRCW040261R9FKTD; Manufacturer: Yageo; Manufacturer Part Number: RC0402FR-0761R9L; Manufacturer: Vishay; Manufacturer Part Number: CRCW040261R9FKED; Manufacturer: Bourns; Manufacturer Part Number: CR0402-FX-61R9GLF; Value: 61.90 Ohm; Case-EIA: 0402; Case-Metric: 1005; Tolerance: 1 %; Technology: SMT; Power: 0.063 W
footprint RESC0402(1005)_N (Chip Resistor, Body 1.0x0.5mm, IPC Medium Density)
footprint RESC0402(1005)_M (Chip Resistor, Body 1.0x0.5mm, IPC Low Density)
footprint RESC0402(1005)_L (Chip Resistor, Body 1.0x0.5mm, IPC High Density)
pins: 1, 2
1 alternate drawing of the same symbol

## CMP-1011-00420-1
designator R?, comment 165R 1% 0402
165R 0.063W 1% 0402 (1005 Metric)  SMD; Manufacturer: Panasonic; Manufacturer Part Number: ERJ-2RKF1650X; Manufacturer: Yageo; Manufacturer Part Number: RC0402FR-07165RL; Manufacturer: Vishay; Manufacturer Part Number: CRCW0402165RFKED; Manufacturer: Bourns; Manufacturer Part Number: CR0402-FX-1650GLF; Manufacturer: Vishay Dale; Manufacturer Part Number: CRCW0402165RFKTD; Manufacturer Part Number: CRCW0402165RFKEE; Case-EIA: 0402; Case-Metric: 1005; Value: 165.00 Ohm; Power: 0.063 W; Technology: SMT; Tolerance: 1 %
footprint RESC0402(1005)_M (Chip Resistor, Body 1.0x0.5mm, IPC Low Density)
footprint RESC0402(1005)_L (Chip Resistor, Body 1.0x0.5mm, IPC High Density)
footprint RESC0402(1005)_N (Chip Resistor, Body 1.0x0.5mm, IPC Medium Density)
pins: 1, 2
1 alternate drawing of the same symbol

## CMP-1011-00449-1
designator R?, comment 300R 1% 0402
300R 0.063W 1% 0402 (1005 Metric)  SMD; Manufacturer: Panasonic; Manufacturer Part Number: ERJ-2RKF3000X; Manufacturer: Vishay Dale; Manufacturer Part Number: CRCW0402300RFKTD; Manufacturer: Bourns; Manufacturer Part Number: CR0402-FX-3000GLF; Manufacturer: Vishay; Manufacturer Part Number: CRCW0402300RFKED; Manufacturer: Yageo; Manufacturer Part Number: RC0402FR-07300RL; Case-EIA: 0402; Value: 300.00 Ohm; Case-Metric: 1005; Tolerance: 1 %; Technology: SMT; Power: 0.063 W
footprint RESC0402(1005)_N (Chip Resistor, Body 1.0x0.5mm, IPC Medium Density)
footprint RESC0402(1005)_M (Chip Resistor, Body 1.0x0.5mm, IPC Low Density)
footprint RESC0402(1005)_L (Chip Resistor, Body 1.0x0.5mm, IPC High Density)
pins: 1, 2
1 alternate drawing of the same symbol

## CMP-1011-00457-1
designator R?, comment 348R 1% 0402
348R 0.063W 1% 0402 (1005 Metric)  SMD; Manufacturer: Vishay; Manufacturer Part Number: CRCW0402348RFKED; Manufacturer: Yageo; Manufacturer Part Number: RC0402FR-07348RL; Manufacturer: Bourns; Manufacturer Part Number: CR0402-FX-3480GLF; Manufacturer: Vishay Dale; Manufacturer Part Number: CRCW0402348RFKTD; Manufacturer: Panasonic; Manufacturer Part Number: ERJ-2RKF3480X; Case-EIA: 0402; Value: 348.00 Ohm; Case-Metric: 1005; Tolerance: 1 %; Technology: SMT; Power: 0.063 W
footprint RESC0402(1005)_L (Chip Resistor, Body 1.0x0.5mm, IPC High Density)
footprint RESC0402(1005)_N (Chip Resistor, Body 1.0x0.5mm, IPC Medium Density)
footprint RESC0402(1005)_M (Chip Resistor, Body 1.0x0.5mm, IPC Low Density)
pins: 1, 2
1 alternate drawing of the same symbol

## CMP-1011-00514-1
designator R?, comment 1K1 1% 0402
1K1 0.063W 1% 0402 (1005 Metric)  SMD; Manufacturer: Vishay Dale; Manufacturer Part Number: CRCW04021K10FKTD; Manufacturer: Yageo; Manufacturer Part Number: RC0402FR-071K1L; Manufacturer: Vishay; Manufacturer Part Number: CRCW04021K10FKED; Manufacturer: Panasonic; Manufacturer Part Number: ERJ-2RKF1101X; Manufacturer: Bourns; Manufacturer Part Number: CR0402-FX-1101GLF; Case-Metric: 1005; Case-EIA: 0402; Value: 1100.00 Ohm; Power: 0.063 W; Tolerance: 1 %; Technology: SMT
footprint RESC0402(1005)_L (Chip Resistor, Body 1.0x0.5mm, IPC High Density)
footprint RESC0402(1005)_N (Chip Resistor, Body 1.0x0.5mm, IPC Medium Density)
footprint RESC0402(1005)_M (Chip Resistor, Body 1.0x0.5mm, IPC Low Density)
pins: 1, 2
1 alternate drawing of the same symbol

## CMP-1012-00053-1
designator R?, comment 130R 5% 0603
130R 0.1W 5% 0603 (1608 Metric)  SMD; Manufacturer: Bourns; Manufacturer Part Number: CR0603-JW-131ELF; Manufacturer: Yageo; Manufacturer Part Number: RC0603JR-07130RL; Manufacturer: Vishay Dale; Manufacturer Part Number: CRCW0603130RJNTA; Manufacturer: Panasonic; Manufacturer Part Number: ERJ-3GEYJ131V; Manufacturer Part Number: CRCW0603130RJNEA; Manufacturer Part Number: CRCW0603130RJNEB; Case-Metric: 1608; Case-EIA: 0603; Value: 130.00 Ohm; Technology: SMT; Tolerance: 5 %; Power: 0.1 W
footprint RESC0603(1608)_L (Chip Resistor, Body 1.6x0.8mm, IPC High Density)
footprint RESC0603(1608)_M (Chip Resistor, Body 1.6x0.8mm, IPC Low Density)
footprint RESC0603(1608)_N (Chip Resistor, Body 1.6x0.8mm, IPC Medium Density)
pins: 1, 2
1 alternate drawing of the same symbol

## CMP-1012-00070-1
designator R?, comment 680R 5% 0603
680R 0.1W 5% 0603 (1608 Metric)  SMD; Manufacturer: Vishay Dale; Manufacturer Part Number: CRCW0603680RJNTA; Manufacturer Part Number: CRCW0603680RJNEB; Manufacturer: Bourns; Manufacturer Part Number: CR0603-JW-681ELF; Manufacturer: Panasonic; Manufacturer Part Number: ERJ-3GEYJ681V; Manufacturer: Yageo; Manufacturer Part Number: RC0603JR-07680RL; Manufacturer Part Number: CRCW0603680RJNEA; Case-EIA: 0603; Value: 680.00 Ohm; Case-Metric: 1608; Tolerance: 5 %; Technology: SMT; Power: 0.1 W
footprint RESC0603(1608)_M (Chip Resistor, Body 1.6x0.8mm, IPC Low Density)
footprint RESC0603(1608)_N (Chip Resistor, Body 1.6x0.8mm, IPC Medium Density)
footprint RESC0603(1608)_L (Chip Resistor, Body 1.6x0.8mm, IPC High Density)
pins: 1, 2
1 alternate drawing of the same symbol

## CMP-1012-00074-1
designator R?, comment 1K 5% 0603
1K 0.1W 5% 0603 (1608 Metric)  SMD; Manufacturer: Vishay Dale; Manufacturer Part Number: CRCW06031K00JNEB; Manufacturer Part Number: CRCW06031K00JNEA; Manufacturer Part Number: CRCW06031K00JNEC; Manufacturer: Panasonic; Manufacturer Part Number: ERJ-3GEYJ102V; Manufacturer Part Number: CRCW06031K00JNTC; Manufacturer: Yageo; Manufacturer Part Number: RC0603JR-071KL; Manufacturer: Bourns; Manufacturer Part Number: CR0603-JW-102ELF; Manufacturer Part Number: CRCW06031K00JNTB; Manufacturer Part Number: CRCW06031K00JNTA; Case-EIA: 0603; Case-Metric: 1608; Value: 1000.00 Ohm; Technology: SMT; Tolerance: 5 %; Power: 0.1 W
footprint RESC0603(1608)_L (Chip Resistor, Body 1.6x0.8mm, IPC High Density)
footprint RESC0603(1608)_M (Chip Resistor, Body 1.6x0.8mm, IPC Low Density)
footprint RESC0603(1608)_N (Chip Resistor, Body 1.6x0.8mm, IPC Medium Density)
pins: 1, 2
1 alternate drawing of the same symbol

## CMP-1012-00098-1
designator R?, comment 10K 5% 0603
10K 0.1W 5% 0603 (1608 Metric)  SMD; Manufacturer: Bourns; Manufacturer Part Number: CR0603-JW-103ELF; Manufacturer: Vishay Dale; Manufacturer Part Number: CRCW060310K0JNTB; Manufacturer Part Number: CRCW060310K0JNTC; Manufacturer Part Number: CRCW060310K0JNEC; Manufacturer Part Number: CRCW060310K0JNTA; Manufacturer: Yageo; Manufacturer Part Number: RC0603JR-0710KL; Manufacturer Part Number: CRCW060310K0JNEA; Manufacturer: Panasonic; Manufacturer Part Number: ERJ-3GEYJ103V; Manufacturer Part Number: CRCW060310K0JNEB; Case-EIA: 0603; Value: 10000.00 Ohm; Case-Metric: 1608; Technology: SMT; Tolerance: 5 %; Power: 0.1 W
footprint RESC0603(1608)_N (Chip Resistor, Body 1.6x0.8mm, IPC Medium Density)
footprint RESC0603(1608)_L (Chip Resistor, Body 1.6x0.8mm, IPC High Density)
footprint RESC0603(1608)_M (Chip Resistor, Body 1.6x0.8mm, IPC Low Density)
pins: 1, 2
1 alternate drawing of the same symbol

## CMP-1012-00102-1
designator R?, comment 15K 5% 0603(1608)
15K 0.1W 5% 0603 (1608 Metric)  SMD; Manufacturer: Bourns; Manufacturer Part Number: CR0603-JW-153ELF; Manufacturer: Yageo; Manufacturer Part Number: RC0603JR-0715KL; Manufacturer: Vishay Dale; Manufacturer Part Number: CRCW060315K0JNEB; Manufacturer: Panasonic; Manufacturer Part Number: ERJ-3GEYJ153V; Manufacturer Part Number: CRCW060315K0JNEC; Manufacturer Part Number: CRCW060315K0JNTC; Manufacturer Part Number: CRCW060315K0JNEA; Manufacturer Part Number: CRCW060315K0JNTA; Value: 15000.00 Ohm; Case-EIA: 0603; Case-Metric: 1608; Tolerance: 5 %; Technology: SMT; Power: 0.1 W
footprint RESC0603(1608)_M (Chip Resistor, Body 1.6x0.8mm, IPC Low Density)
footprint RESC0603(1608)_N (Chip Resistor, Body 1.6x0.8mm, IPC Medium Density)
footprint RESC0603(1608)_L (Chip Resistor, Body 1.6x0.8mm, IPC High Density)
pins: 1, 2
1 alternate drawing of the same symbol

## CMP-1012-00106-1
designator R?, comment 22K 5% 0603
22K 0.1W 5% 0603 (1608 Metric)  SMD; Manufacturer: Panasonic; Manufacturer Part Number: ERJ3GEYJ223V; Manufacturer: Vishay Dale; Manufacturer Part Number: CRCW060322K0JNEA; Manufacturer Part Number: CRCW060322K0JNTA; Manufacturer Part Number: CRCW060322K0JNTC; Manufacturer: Vishay Semiconductors; Manufacturer Part Number: CRCW060322K0JNEC; Manufacturer: Yageo; Manufacturer Part Number: RC0603JR-0722KL; Manufacturer: Bourns; Manufacturer Part Number: CR0603-JW-223ELF; Manufacturer Part Number: CRCW060322K0JNEB; Case-Metric: 1608; Value: 22000.00 Ohm; Case-EIA: 0603; Power: 0.1 W; Tolerance: 5 %; Technology: SMT
footprint RESC0603(1608)_M (Chip Resistor, Body 1.6x0.8mm, IPC Low Density)
footprint RESC0603(1608)_N (Chip Resistor, Body 1.6x0.8mm, IPC Medium Density)
footprint RESC0603(1608)_L (Chip Resistor, Body 1.6x0.8mm, IPC High Density)
pins: 1, 2
1 alternate drawing of the same symbol

## CMP-1012-00108-1
designator R?, comment 27K 5% 0603
27K 0.1W 5% 0603 (1608 Metric)  SMD; Manufacturer: Vishay Dale; Manufacturer Part Number: CRCW060327K0JNEB; Manufacturer: Yageo; Manufacturer Part Number: RC0603JR-0727KL; Manufacturer Part Number: CRCW060327K0JNTA; Manufacturer Part Number: CRCW060327K0JNEA; Manufacturer: Panasonic; Manufacturer Part Number: ERJ-3GEYJ273V; Manufacturer: Bourns; Manufacturer Part Number: CR0603-JW-273ELF; Manufacturer Part Number: CRCW060327K0JNEC; Value: 27000.00 Ohm; Case-Metric: 1608; Case-EIA: 0603; Power: 0.1 W; Tolerance: 5 %; Technology: SMT
footprint RESC0603(1608)_L (Chip Resistor, Body 1.6x0.8mm, IPC High Density)
footprint RESC0603(1608)_N (Chip Resistor, Body 1.6x0.8mm, IPC Medium Density)
footprint RESC0603(1608)_M (Chip Resistor, Body 1.6x0.8mm, IPC Low Density)
pins: 1, 2
1 alternate drawing of the same symbol

## CMP-1012-00110-1
designator R?, comment 33K 5% 0603
33K 0.1W 5% 0603 (1608 Metric)  SMD; Manufacturer: Yageo; Manufacturer Part Number: RC0603JR-0733KL; Manufacturer: Vishay Dale; Manufacturer Part Number: CRCW060333K0JNEB; Manufacturer: Panasonic; Manufacturer Part Number: ERJ-3GEYJ333V; Manufacturer Part Number: CRCW060333K0JNEA; Manufacturer Part Number: CRCW060333K0JNTC; Manufacturer Part Number: CRCW060333K0JNEC; Manufacturer: Bourns; Manufacturer Part Number: CR0603-JW-333ELF; Manufacturer Part Number: CRCW060333K0JNTB; Manufacturer Part Number: CRCW060333K0JNTA; Value: 33000.00 Ohm; Case-EIA: 0603; Case-Metric: 1608; Tolerance: 5 %; Power: 0.1 W; Technology: SMT
footprint RESC0603(1608)_N (Chip Resistor, Body 1.6x0.8mm, IPC Medium Density)
footprint RESC0603(1608)_L (Chip Resistor, Body 1.6x0.8mm, IPC High Density)
footprint RESC0603(1608)_M (Chip Resistor, Body 1.6x0.8mm, IPC Low Density)
pins: 1, 2
1 alternate drawing of the same symbol

## CMP-1012-00114-1
designator R?, comment 47K 5% 0603
47K 0.1W 5% 0603 (1608 Metric)  SMD; Manufacturer: Panasonic; Manufacturer Part Number: ERJ-3GEYJ473V; Manufacturer: Vishay; Manufacturer Part Number: CRCW060347K0JNEA; Manufacturer: Vishay Dale; Manufacturer Part Number: CRCW060347K0JNEB; Manufacturer: Vishay Intertechnology; Manufacturer Part Number: CRCW060347K0JNEC; Manufacturer: Bourns; Manufacturer Part Number: CR0603-JW-473ELF; Manufacturer: Yageo; Manufacturer Part Number: RC0603JR-0747KL; Manufacturer Part Number: CRCW060347K0JNTB; Manufacturer Part Number: CRCW060347K0JNTA; Case-EIA: 0603; Value: 47000.00 Ohm; Case-Metric: 1608; Tolerance: 5 %; Power: 0.1 W; Technology: SMT
footprint RESC0603(1608)_L (Chip Resistor, Body 1.6x0.8mm, IPC High Density)
footprint RESC0603(1608)_N (Chip Resistor, Body 1.6x0.8mm, IPC Medium Density)
footprint RESC0603(1608)_M (Chip Resistor, Body 1.6x0.8mm, IPC Low Density)
pins: 1, 2
1 alternate drawing of the same symbol

## CMP-1012-00122-1
designator R?, comment 100K 5% 0603
100K 0.1W 5% 0603 (1608 Metric)  SMD; Manufacturer: Vishay Dale; Manufacturer Part Number: CRCW0603100KJNTC; Manufacturer Part Number: CRCW0603100KJNEB; Manufacturer Part Number: CRCW0603100KJNTB; Manufacturer: Panasonic; Manufacturer Part Number: ERJ-3GEYJ104V; Manufacturer: Vishay; Manufacturer Part Number: CRCW0603100KJNEA; Manufacturer: Yageo; Manufacturer Part Number: RC0603JR-07100KL; Manufacturer: Bourns; Manufacturer Part Number: CR0603-JW-104ELF; Manufacturer Part Number: CRCW0603100KJNTA; Manufacturer Part Number: CRCW0603100KJNEC; Case-EIA: 0603; Value: 100000.00 Ohm; Case-Metric: 1608; Tolerance: 5 %; Power: 0.1 W; Technology: SMT
footprint RESC0603(1608)_N (Chip Resistor, Body 1.6x0.8mm, IPC Medium Density)
footprint RESC0603(1608)_L (Chip Resistor, Body 1.6x0.8mm, IPC High Density)
footprint RESC0603(1608)_M (Chip Resistor, Body 1.6x0.8mm, IPC Low Density)
pins: 1, 2
1 alternate drawing of the same symbol

## CMP-1012-00284-1
designator R?, comment 10R 1% 0603(1608)
10R 0.1W 1% 0603 (1608 Metric)  SMD; Manufacturer: Bourns; Manufacturer Part Number: CR0603-FX-10R0ELF; Manufacturer: Vishay; Manufacturer Part Number: CRCW060310R0FKEA; Manufacturer: Yageo; Manufacturer Part Number: RC0603FR-0710RL; Manufacturer: Panasonic; Manufacturer Part Number: ERJ3EKF10R0V; Manufacturer: Vishay Dale; Manufacturer Part Number: CRCW060310R0FKEB; Manufacturer Part Number: CRCW060310R0FKTB; Manufacturer Part Number: CRCW060310R0FKEC; Manufacturer Part Number: CRCW0603-10R0FKTA; Case-Metric: 1608; Case-EIA: 0603; Value: 10.00 Ohm; Tolerance: 1 %; Power: 0.1 W; Technology: SMT
footprint RESC0603(1608)_L (Chip Resistor, Body 1.6x0.8mm, IPC High Density)
footprint RESC0603(1608)_N (Chip Resistor, Body 1.6x0.8mm, IPC Medium Density)
footprint RESC0603(1608)_M (Chip Resistor, Body 1.6x0.8mm, IPC Low Density)
pins: 1, 2
1 alternate drawing of the same symbol

## CMP-1012-00655-1
designator R?, comment 20K 1% 0603
20K 0.1W 1% 0603 (1608 Metric)  SMD; Manufacturer: Vishay Dale; Manufacturer Part Number: CRCW060320K0FKEB; Manufacturer Part Number: CRCW060320K0FKTB; Manufacturer Part Number: CRCW060320K0FKTA; Manufacturer: Yageo; Manufacturer Part Number: RC0603FR-0720KL; Manufacturer: Bourns; Manufacturer Part Number: CR0603-FX-2002ELF; Manufacturer: Panasonic; Manufacturer Part Number: ERJ3EKF2002V; Manufacturer Part Number: CRCW060320K0FKTC; Manufacturer: Vishay; Manufacturer Part Number: CRCW060320K0FKEA; Manufacturer Part Number: CRCW060320K0FKEC; Case-Metric: 1608; Case-EIA: 0603; Value: 20000.00 Ohm; Technology: SMT; Tolerance: 1 %; Power: 0.1 W
footprint RESC0603(1608)_L (Chip Resistor, Body 1.6x0.8mm, IPC High Density)
footprint RESC0603(1608)_N (Chip Resistor, Body 1.6x0.8mm, IPC Medium Density)
footprint RESC0603(1608)_M (Chip Resistor, Body 1.6x0.8mm, IPC Low Density)
pins: 1, 2
1 alternate drawing of the same symbol

## CMP-1035-02189-1
designator C?, comment 4.7nF 10V 0603
CAP 4.7nF 10V ±10% 0603 (1608 Metric) Thickness 1mm SMD; Manufacturer: KEMET; Manufacturer Part Number: C0603C472K8RAC; Manufacturer: Vishay Vitramon; Manufacturer Part Number: VJ0603Y472KXQPW1BC; Manufacturer Part Number: C0603C472K8RACTU; Manufacturer Part Number: C0603C472K8GAC; Manufacturer Part Number: VJ0603Y472KXQCW1BC; Manufacturer Part Number: C0603C472K8RACTM; Case-Metric: 1608; Tolerance: Â±10%; Case-EIA: 0603; Max Thickness: 1 mm; Technology: SMT; Rated Voltage: 10 V; Value: 4.7nF
footprint CAPC0603(1608)100_N (Chip Capacitor, Body 1.6x0.8mm, Height 1.0mm, IPC Medium Density)
footprint CAPC0603(1608)100_M (Chip Capacitor, Body 1.6x0.8mm, Height 1.0mm, IPC Low Density)
footprint CAPC0603(1608)100_L (Chip Capacitor, Body 1.6x0.8mm, Height 1.0mm, IPC High Density)
pins: 1, 2
1 alternate drawing of the same symbol

## CMP-1035-02763-1
designator C?, comment Capacitance: 2.2uF 16V X5R 0603  (hidden comment: Cap_Taiyo_Yuden_2.2uF)
CAP 2.2uF 16V ±10% 0603 (1608 Metric) Thickness 1mm SMD; Manufacturer: TDK; Manufacturer Part Number: C1608X5R1C225K/0.50; Manufacturer Part Number: C1608X5R1C225K/0.80; Manufacturer: Yageo; Manufacturer Part Number: CC0603KRX5R7BB225; Manufacturer: KEMET; Manufacturer Part Number: C0603C225K4PACTU; Manufacturer Part Number: C0603C225K4PAC; Manufacturer: Kyocera AVX; Manufacturer Part Number: 0603YD225KAT2A; Manufacturer Part Number: C1608X6S1C225K; Case-Metric: 1608; Case-EIA: 0603; Tolerance: Â±10%; Value: 2.2uF; Max Thickness: 1 mm; Technology: SMT; Rated Voltage: 16 V; Parameter 1: *
footprint CAPC0603(1608)100_L (Chip Capacitor, Body 1.6x0.8mm, Height 1.0mm, IPC High Density)
footprint CAPC0603(1608)100_N (Chip Capacitor, Body 1.6x0.8mm, Height 1.0mm, IPC Medium Density)
footprint CAPC0603(1608)100_M (Chip Capacitor, Body 1.6x0.8mm, Height 1.0mm, IPC Low Density)
pins: 1, 2
1 alternate drawing of the same symbol

## CMP-1176-00030-1
designator D?, comment BAV99S
Silicon Switching Diode, SOT363, Reel, Green; Manufacturer: Infineon; VR (max): 80Â V; VBR (min): 85Â V; IF (max): 200Â mA; trr (max): 4Â ns; Green: TRUE; VF (max): 1.25Â V; Configuration: Quadruple; IR (max): 150Â nA; PackageReference: SOT363; Halogen-free: TRUE; ComponentLink3URL: http://www.infineon.com/dgdl/SOT363-Package_Overview.pdf?folderId=db3a30431936bc4b01195360bd8f3cdc&fileId=db3a30431936bc4b0119536b62bf3cf5; PartNumber: BAV99S; ComponentLink3Description: Package Specification; ComponentLink2URL: http://www.infineon.com/dgdl/bav99series.pdf?folderId=db3a30431400ef6801141b5844e103ea&fileId=db3a30431400ef6801141c1b237d042f; ComponentLink1Description: Manufacturer URL; ComponentLink2Description: Datasheet; ComponentLink1URL: http://www.infineon.com/; PackageDescription: 6-Pin Small Outline Transistor Package, 1.25 x 2 mm Body; Mounting Technology: Surface Mount; Manufacturer Part Number: BAV99S
footprint INF-SOT363_V (SOT23, 6-Leads, Body 2x1.25 mm, Pitch 0.65 mm)
pins: 1 A1, 2 K2, 3 C3, 4 A4, 5 K5, 6 C6

## CMP-2000-00317-1
designator R?, comment 2k 1% 0603
ERJ-3EKF2001V RES SMD 2K OHM 1% 1/10W 0603; Manufacturer: Panasonic; Part Number: ERJ-3EKF2001V; Manufacturer Part Number: ERJ-3EKF2001V
footprint RESC1608X55X30ML15T15 (Chip Resistor, 2-Leads, Body 1.60x0.80mm, IPC Low Density)
footprint RESC1608X55X30LL15T15 (Chip Resistor, 2-Leads, Body 1.60x0.80mm, IPC High Density)
footprint RESC1608X55X30NL15T15 (Chip Resistor, 2-Leads, Body 1.60x0.80mm, IPC Medium Density)
pins: 1, 2
1 alternate drawing of the same symbol

## CMP-2000-00511-1
designator R?, comment 453R 1% 0603
ERJ-3EKF4530V; Manufacturer: Panasonic; Part Number: ERJ-3EKF4530V; Manufacturer Part Number: ERJ-3EKF4530V
footprint RESC1608X55X30NL15T15 (Chip Resistor, 2-Leads, Body 1.60x0.80mm, IPC Medium Density)
footprint RESC1608X55X30ML15T15 (Chip Resistor, 2-Leads, Body 1.60x0.80mm, IPC Low Density)
footprint RESC1608X55X30LL15T15 (Chip Resistor, 2-Leads, Body 1.60x0.80mm, IPC High Density)
pins: 1, 2
1 alternate drawing of the same symbol

## CMP-2000-00559-1
designator R?, comment 549R 1% 0603
ERJ-3EKF5490V; Manufacturer: Panasonic; Part Number: ERJ-3EKF5490V; Manufacturer Part Number: ERJ-3EKF5490V
footprint RESC1608X55X30ML15T15 (Chip Resistor, 2-Leads, Body 1.60x0.80mm, IPC Low Density)
footprint RESC1608X55X30NL15T15 (Chip Resistor, 2-Leads, Body 1.60x0.80mm, IPC Medium Density)
footprint RESC1608X55X30LL15T15 (Chip Resistor, 2-Leads, Body 1.60x0.80mm, IPC High Density)
pins: 1, 2
1 alternate drawing of the same symbol